# EAGLE library part SN74LVC1G332 (library LITTLEBITS140915)
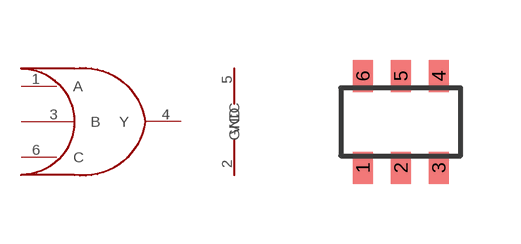
[diagram p13: symbol with the pads of SN74LVC1G332; footprint SN74LVC1G332]

Designator prefix -

## SN74LVC1G332  [SN74LVC1G332]
1  A
2  GND
3  B
4  Y
5  VCC
6  C

## Footprint SN74LVC1G332 (pad centres in mm)
smd 0.5 x 0.8: 1 0.55,-0.3; 2 1.5,-0.3; 3 2.45,-0.3; 4 2.45,2; 5 1.5,2; 6 0.55,2